# EAGLE library part CONNECTOR-20_?_* (library HyTechDevices)
20-pin connector Datasheet <https://www.molex.com/en-us/products/part-detail/430452029>
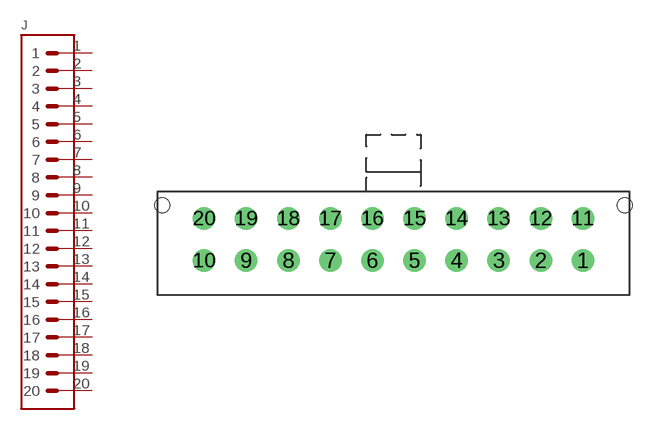
[diagram p89: symbol with the pads of MOLEX_MICROFIT_PTH_VERTICAL_20_DUAL; footprint MOLEX_MICROFIT_PTH_VERTICAL_20_DUAL]

Designator prefix J

## CONNECTOR-20_MF_T_V_ (DKPN: WM10754-ND; MANUFACTURER: Molex; MOPN: 538-43045-2029; MPN: 0430452029)  [MOLEX_MICROFIT_PTH_VERTICAL_20_DUAL]
1  1  pas
2  2  pas
3  3  pas
4  4  pas
5  5  pas
6  6  pas
7  7  pas
8  8  pas
9  9  pas
10  10  pas
11  11  pas
12  12  pas
13  13  pas
14  14  pas
15  15  pas
16  16  pas
17  17  pas
18  18  pas
19  19  pas
20  20  pas

## Footprint MOLEX_MICROFIT_PTH_VERTICAL_20_DUAL (pad centres in mm)
20 Pin Micro-Fit Vertical Header, Through-Hole, Dual Row Part <https://www.molex.com/en-us/products/part-detail/430452029> Footprint <https://www.molex.com/content/dam/molex/molex-dot-com/products/automated/en-us/salesdrawingpdf/430/43045/430452029_sd.pdf?inline> Plug Size <https://tools.molex.com/pdm_docs/sd/430251400_sd.pdf>
drill 1.067: 1 13.5,-3; 2 10.5,-3; 3 7.5,-3; 4 4.5,-3; 5 1.5,-3; 6 -1.5,-3; 7 -4.5,-3; 8 -7.5,-3; 9 -10.5,-3; 10 -13.5,-3; 11 13.5,0; 12 10.5,0; 13 7.5,0; 14 4.5,0; 15 1.5,0; 16 -1.5,0; 17 -4.5,0; 18 -7.5,0; 19 -10.5,0; 20 -13.5,0
hole 1.067 at 16.5,0.94
hole 1.067 at -16.5,0.94